# EAGLE library part NEWGEN_ELASTOMERIC_PADS (library PanelFixture)
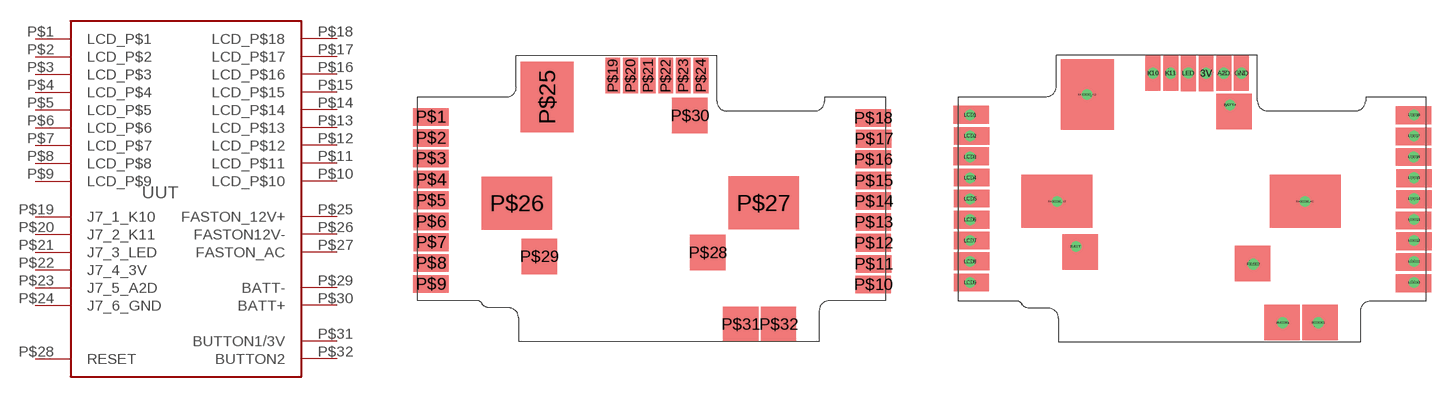
[diagram p1: symbol with the pads of NEWGEN_ELASTOMERIC_PADS; footprints NEWGEN_ELASTOMERIC_PADS, NEWGEN_ELASTOMERIC_2]

Designator prefix UUT

## NEWGEN_ELASTOMERIC_PADS  [NEWGEN_ELASTOMERIC_PADS]
P$1  LCD_P$1
P$2  LCD_P$2
P$3  LCD_P$3
P$4  LCD_P$4
P$5  LCD_P$5
P$6  LCD_P$6
P$7  LCD_P$7
P$8  LCD_P$8
P$9  LCD_P$9
P$10  LCD_P$10
P$11  LCD_P$11
P$12  LCD_P$12
P$13  LCD_P$13
P$14  LCD_P$14
P$15  LCD_P$15
P$16  LCD_P$16
P$17  LCD_P$17
P$18  LCD_P$18
P$19  J7_1_K10
P$20  J7_2_K11
P$21  J7_3_LED
P$22  J7_4_3V
P$23  J7_5_A2D
P$24  J7_6_GND
P$25  FASTON_12V+
P$26  FASTON12V-
P$27  FASTON_AC
P$28  RESET
P$29  BATT-
P$30  BATT+
P$31  BUTTON1/3V
P$32  BUTTON2

## NEWGEN_ELASTOMERIC_PADSREVISED  [NEWGEN_ELASTOMERIC_2]
3V  J7_4_3V
A2D  J7_5_A2D
BATT+  BATT+
BATT-  BATT-
BUTTON1  BUTTON1/3V
BUTTON2  BUTTON2
FASTON_+12  FASTON_12V+
FASTON_-12  FASTON12V-
FASTON_AC  FASTON_AC
GND  J7_6_GND
K10  J7_1_K10
K11  J7_2_K11
LCD1  LCD_P$1
LCD2  LCD_P$2
LCD3  LCD_P$3
LCD4  LCD_P$4
LCD5  LCD_P$5
LCD6  LCD_P$6
LCD7  LCD_P$7
LCD8  LCD_P$8
LCD9  LCD_P$9
LCD10  LCD_P$10
LCD11  LCD_P$11
LCD12  LCD_P$12
LCD13  LCD_P$13
LCD14  LCD_P$14
LCD15  LCD_P$15
LCD16  LCD_P$16
LCD17  LCD_P$17
LCD18  LCD_P$18
LED  J7_3_LED
RESET  RESET

## Footprint NEWGEN_ELASTOMERIC_PADS (pad centres in mm)
smd 2.54 x 1.27: P$1 0.923,16.203; P$2 0.931,14.682; P$3 0.926,13.218; P$4 0.944,11.691; P$5 0.944,10.199; P$6 0.935,8.671; P$7 0.943,7.187; P$8 0.936,5.69; P$9 0.928,4.177; P$10 32.76,4.152; P$11 32.782,5.629; P$12 32.771,7.15; P$13 32.775,8.648; P$14 32.775,10.147; P$15 32.775,11.624; P$16 32.753,13.155; P$17 32.785,14.632; P$18 32.757,16.129
smd 1.067 x 2.54: P$19 14.013,19.174; P$20 15.292,19.169; P$21 16.552,19.169; P$22 17.82,19.168; P$23 19.087,19.177; P$24 20.354,19.177
smd 3.81 x 5.08: P$25 9.285,17.621
smd 5.08 x 3.81: P$26 7.114,10.003; P$27 24.868,10.015
smd 2.54 x 2.54: P$28 20.857,6.444; P$29 8.72,6.167; P$30 19.56,16.297; P$31 23.212,1.292; P$32 25.939,1.292

## Footprint NEWGEN_ELASTOMERIC_2 (pad centres in mm)
drill 0.254 pad 0.508 round: 3V 17.754,19.302; A2D 19.023,19.302; BATT+ 19.468,17.023; BATT- 8.442,6.873; BUTTON1 23.256,1.415; BUTTON2 25.797,1.416; FASTON_+12 9.223,17.761; FASTON_-12 7.068,10.116; FASTON_AC 24.846,10.113; GND 20.295,19.302; K10 13.946,19.301; K11 15.214,19.301; LCD1 0.847,16.302; LCD2 0.844,14.802; LCD3 0.841,13.296; LCD4 0.843,11.8; LCD5 0.841,10.297; LCD6 0.843,8.801; LCD7 0.841,7.298; LCD8 0.841,5.798; LCD9 0.845,4.3; LCD10 32.651,4.304; LCD11 32.65,5.801; LCD12 32.649,7.301; LCD13 32.651,8.802; LCD14 32.649,10.3; LCD15 32.651,11.804; LCD16 32.647,13.299; LCD17 32.652,14.804; LCD18 32.654,16.305; LED 16.482,19.302; RESET 21.139,5.605